# Altium integrated library TI Power Management Supervisor and Reset IC.IntLib: 819 symbols (part 13 of 30)
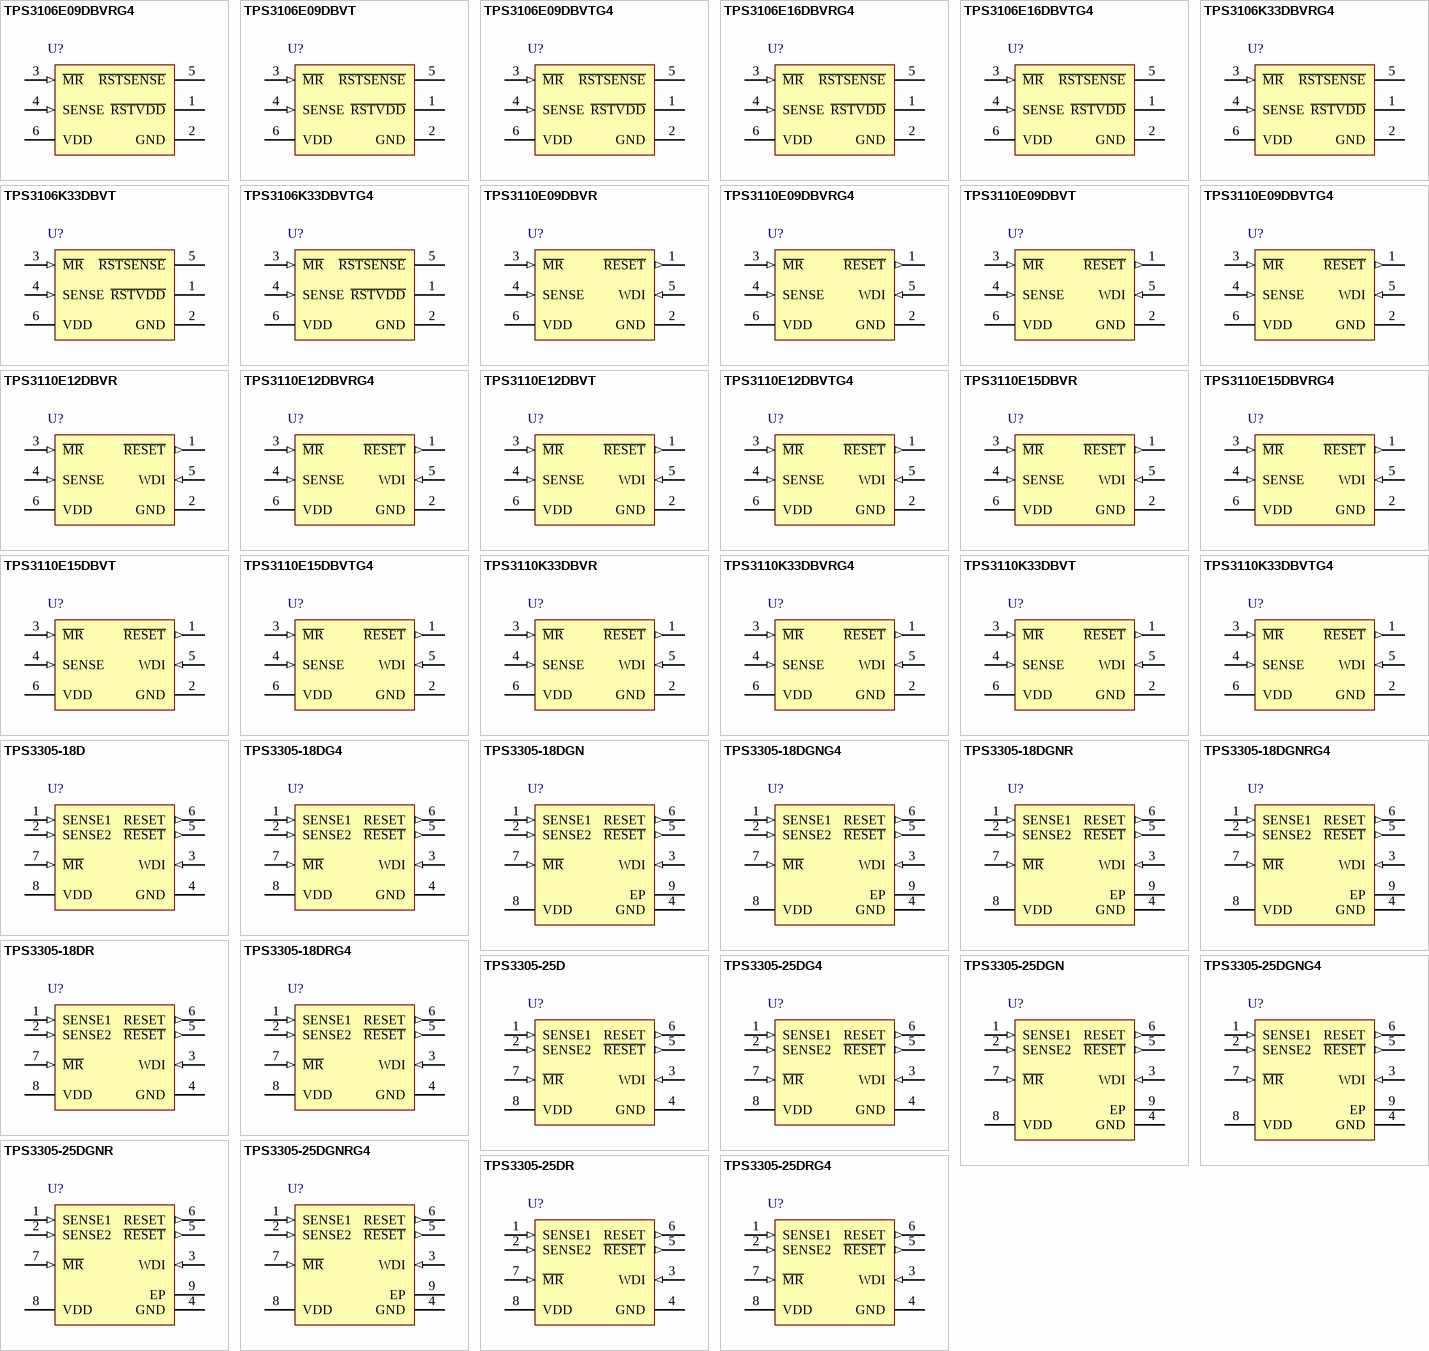
[diagram p33: symbols TPS3106E09DBVRG4 to TPS3305-25DRG4]

## TPS3305-18DRG4
designator U?
Dual Processor Supervisory Circuit, 2 Supply Monitored, -40 to 85 degC, 8-pin SOIC (D), Green (RoHS & no Sb/Br); Manufacturer: Texas Instruments; PartNumber: TPS3305-18DRG4; # of supplies monitored: 2; Iq(Typ)(uA): 15; Output Driver Type / Reset Output: Active-low, Push-pull; Rating: Catalog; Reset Threshold Accuracy(%): 2.7; SubFamily: Supervisor and Reset IC; Threshold Voltage 1 (typ)(Typ)(V): 2.93; Threshold Voltage 2 (typ)(Typ)(V): 1.68; Time Delay(ms): 200; VCC(Max)(V): 6; Watchdog Timer WDI(sec): 1.6; DatasheetVersion: SLVS198C; PackageVersion: revM, Jun-2011; PackageReference: D8; PackageDescription: 8-Pin Plastic Small Outline Integrated Circuit, 4.9 x 3.9 mm, Pitch 1.27 mm Pitch; Supplier 1: Digi-Key; Supplier Part Number 1: TPS3305-18DRG4-ND; Supplier 2: Newark; Supplier Part Number 2: 71J8098; Supplier 3: Mouser; Supplier Part Number 3: 595-TPS3305-18DRG4; VCC(Min)(V): 2.7; Mounting Technology: Surface Mount; Code_JEDEC: MS-012AA; ComponentLink1Description: Datasheet; ComponentLink1URL: http://www.ti.com/general/docs/lit/getliterature.tsp?genericPartNumber=TPS3305-18&fileType=pdf
footprint D8_N (SOIC, 8-Leads, Body 4.9x3.9mm, Pitch 1.27mm, IPC Medium Density)
footprint D8_L (SOIC, 8-Leads, Body 4.9x3.9mm, Pitch 1.27mm, IPC High Density)
footprint D8_M (SOIC, 8-Leads, Body 4.9x3.9mm, Pitch 1.27mm, IPC Low Density)
pins: 1 SENSE1 (in) "Sense voltage input 1", 2 SENSE2 (in) "Sense voltage input 2", 3 WDI (in) "Watchdog timer input", 4 GND (power) "Ground", 5 ~{RESET} (out) "Active-low reset output", 6 RESET (out) "Active-high reset output", 7 ~{MR} (in) "Manual reset", 8 VDD (power) "Supply voltage"

## TPS3305-25D
designator U?
Dual Processor Supervisory Circuit, 2 Supply Monitored, -40 to 85 degC, 8-pin SOIC (D), Green (RoHS & no Sb/Br); Manufacturer: Texas Instruments; PartNumber: TPS3305-25D; # of supplies monitored: 2; Iq(Typ)(uA): 15; Output Driver Type / Reset Output: Active-low, Push-pull; Rating: Catalog; Reset Threshold Accuracy(%): 2.7; SubFamily: Supervisor and Reset IC; Threshold Voltage 1 (typ)(Typ)(V): 2.93; Threshold Voltage 2 (typ)(Typ)(V): 2.25; Time Delay(ms): 200; VCC(Max)(V): 6; Watchdog Timer WDI(sec): 1.6; DatasheetVersion: SLVS198C; PackageVersion: revM, Jun-2011; PackageReference: D8; PackageDescription: 8-Pin Plastic Small Outline Integrated Circuit, 4.9 x 3.9 mm, Pitch 1.27 mm Pitch; Supplier 1: Digi-Key; Supplier Part Number 1: 296-2618-5-ND; Supplier 2: Newark; Supplier Part Number 2: 77C0297; Supplier 3: Mouser; Supplier Part Number 3: 595-TPS3305-25D; VCC(Min)(V): 2.7; Mounting Technology: Surface Mount; Code_JEDEC: MS-012AA; ComponentLink1Description: Datasheet; ComponentLink1URL: http://www.ti.com/general/docs/lit/getliterature.tsp?genericPartNumber=TPS3305-25&fileType=pdf
footprint D8_N (SOIC, 8-Leads, Body 4.9x3.9mm, Pitch 1.27mm, IPC Medium Density)
footprint D8_L (SOIC, 8-Leads, Body 4.9x3.9mm, Pitch 1.27mm, IPC High Density)
footprint D8_M (SOIC, 8-Leads, Body 4.9x3.9mm, Pitch 1.27mm, IPC Low Density)
pins: 1 SENSE1 (in) "Sense voltage input 1", 2 SENSE2 (in) "Sense voltage input 2", 3 WDI (in) "Watchdog timer input", 4 GND (power) "Ground", 5 ~{RESET} (out) "Active-low reset output", 6 RESET (out) "Active-high reset output", 7 ~{MR} (in) "Manual reset", 8 VDD (power) "Supply voltage"

## TPS3305-25DG4
designator U?
Dual Processor Supervisory Circuit, 2 Supply Monitored, -40 to 85 degC, 8-pin SOIC (D), Green (RoHS & no Sb/Br); Manufacturer: Texas Instruments; PartNumber: TPS3305-25DG4; # of supplies monitored: 2; Iq(Typ)(uA): 15; Output Driver Type / Reset Output: Active-low, Push-pull; Rating: Catalog; Reset Threshold Accuracy(%): 2.7; SubFamily: Supervisor and Reset IC; Threshold Voltage 1 (typ)(Typ)(V): 2.93; Threshold Voltage 2 (typ)(Typ)(V): 2.25; Time Delay(ms): 200; VCC(Max)(V): 6; Watchdog Timer WDI(sec): 1.6; DatasheetVersion: SLVS198C; PackageVersion: revM, Jun-2011; PackageReference: D8; PackageDescription: 8-Pin Plastic Small Outline Integrated Circuit, 4.9 x 3.9 mm, Pitch 1.27 mm Pitch; Supplier 1: Digi-Key; Supplier Part Number 1: TPS3305-25DG4-ND; Supplier 2: Farnell; Supplier Part Number 2: 1234815; Supplier 3: Newark; Supplier Part Number 3: 66K4518; Supplier 4: Mouser; Supplier Part Number 4: 595-TPS3305-25DG4; VCC(Min)(V): 2.7; Mounting Technology: Surface Mount; Code_JEDEC: MS-012AA; ComponentLink1Description: Datasheet; ComponentLink1URL: http://www.ti.com/general/docs/lit/getliterature.tsp?genericPartNumber=TPS3305-25&fileType=pdf
footprint D8_N (SOIC, 8-Leads, Body 4.9x3.9mm, Pitch 1.27mm, IPC Medium Density)
footprint D8_L (SOIC, 8-Leads, Body 4.9x3.9mm, Pitch 1.27mm, IPC High Density)
footprint D8_M (SOIC, 8-Leads, Body 4.9x3.9mm, Pitch 1.27mm, IPC Low Density)
pins: 1 SENSE1 (in) "Sense voltage input 1", 2 SENSE2 (in) "Sense voltage input 2", 3 WDI (in) "Watchdog timer input", 4 GND (power) "Ground", 5 ~{RESET} (out) "Active-low reset output", 6 RESET (out) "Active-high reset output", 7 ~{MR} (in) "Manual reset", 8 VDD (power) "Supply voltage"

## TPS3305-25DGN
designator U?
Dual Processor Supervisory Circuit, 2 Supply Monitored, -40 to 85 degC, 8-pin MSOP-PowerPAD (DGN), Green (RoHS & no Sb/Br); Manufacturer: Texas Instruments; PartNumber: TPS3305-25DGN; # of supplies monitored: 2; Iq(Typ)(uA): 15; Output Driver Type / Reset Output: Active-low, Push-pull; Rating: Catalog; Reset Threshold Accuracy(%): 2.7; SubFamily: Supervisor and Reset IC; Threshold Voltage 1 (typ)(Typ)(V): 2.93; Threshold Voltage 2 (typ)(Typ)(V): 2.25; Time Delay(ms): 200; VCC(Max)(V): 6; Watchdog Timer WDI(sec): 1.6; DatasheetVersion: SLVS198C; PackageVersion: revF, May-2011; PackageReference: DGN8-1760X1425TP; PackageDescription: 8-Pin PowerPAD Plastic Small Outline Package 3 x 3 mm Body ,0.65 mm Pitch, Exposed Pad; Supplier 1: Digi-Key; Supplier Part Number 1: 296-34601-5-ND; Supplier 2: Newark; Supplier Part Number 2: 77C0298; Supplier 3: Mouser; Supplier Part Number 3: 595-TPS3305-25DGN; VCC(Min)(V): 2.7; Mounting Technology: Surface Mount; Code_JEDEC: MO-187-AA-T; ComponentLink1Description: Datasheet; ComponentLink1URL: http://www.ti.com/general/docs/lit/getliterature.tsp?genericPartNumber=TPS3305-25&fileType=pdf
footprint DGN8-1760X1425TP_N (TSOP, 8-Leads, Body 3x3mm, Pitch 0.65mm, Thermal Pad 1.89x1.57mm, IPC Medium Density)
footprint DGN8-1760X1425TP_L (TSOP, 8-Leads, Body 3x3mm, Pitch 0.65mm, Thermal Pad 1.89x1.57mm, IPC High Density)
footprint DGN8-1760X1425TP_M (TSOP, 8-Leads, Body 3x3mm, Pitch 0.65mm, Thermal Pad 1.89x1.57mm, IPC Low Density)
pins: 1 SENSE1 (in) "Sense voltage input 1", 2 SENSE2 (in) "Sense voltage input 2", 3 WDI (in) "Watchdog timer input", 4 GND (power) "Ground", 5 ~{RESET} (out) "Active-low reset output", 6 RESET (out) "Active-high reset output", 7 ~{MR} (in) "Manual reset", 8 VDD (power) "Supply voltage", 9 EP "Thermal Pad"

## TPS3305-25DGNG4
designator U?
Dual Processor Supervisory Circuit, 2 Supply Monitored, -40 to 85 degC, 8-pin MSOP-PowerPAD (DGN), Green (RoHS & no Sb/Br); Manufacturer: Texas Instruments; PartNumber: TPS3305-25DGNG4; # of supplies monitored: 2; Iq(Typ)(uA): 15; Output Driver Type / Reset Output: Active-low, Push-pull; Rating: Catalog; Reset Threshold Accuracy(%): 2.7; SubFamily: Supervisor and Reset IC; Threshold Voltage 1 (typ)(Typ)(V): 2.93; Threshold Voltage 2 (typ)(Typ)(V): 2.25; Time Delay(ms): 200; VCC(Max)(V): 6; Watchdog Timer WDI(sec): 1.6; DatasheetVersion: SLVS198C; PackageVersion: revF, May-2011; PackageReference: DGN8-1760X1425TP; PackageDescription: 8-Pin PowerPAD Plastic Small Outline Package 3 x 3 mm Body ,0.65 mm Pitch, Exposed Pad; Supplier 1: Digi-Key; Supplier Part Number 1: TPS3305-25DGNG4-ND; Supplier 2: Newark; Supplier Part Number 2: 58K6913; Supplier 3: Mouser; Supplier Part Number 3: 595-TPS3305-25DGNG4; VCC(Min)(V): 2.7; Mounting Technology: Surface Mount; Code_JEDEC: MO-187-AA-T; ComponentLink1Description: Datasheet; ComponentLink1URL: http://www.ti.com/general/docs/lit/getliterature.tsp?genericPartNumber=TPS3305-25&fileType=pdf
footprint DGN8-1760X1425TP_N (TSOP, 8-Leads, Body 3x3mm, Pitch 0.65mm, Thermal Pad 1.89x1.57mm, IPC Medium Density)
footprint DGN8-1760X1425TP_L (TSOP, 8-Leads, Body 3x3mm, Pitch 0.65mm, Thermal Pad 1.89x1.57mm, IPC High Density)
footprint DGN8-1760X1425TP_M (TSOP, 8-Leads, Body 3x3mm, Pitch 0.65mm, Thermal Pad 1.89x1.57mm, IPC Low Density)
pins: 1 SENSE1 (in) "Sense voltage input 1", 2 SENSE2 (in) "Sense voltage input 2", 3 WDI (in) "Watchdog timer input", 4 GND (power) "Ground", 5 ~{RESET} (out) "Active-low reset output", 6 RESET (out) "Active-high reset output", 7 ~{MR} (in) "Manual reset", 8 VDD (power) "Supply voltage", 9 EP "Thermal Pad"

## TPS3305-25DGNR
designator U?
Dual Processor Supervisory Circuit, 2 Supply Monitored, -40 to 85 degC, 8-pin MSOP-PowerPAD (DGN), Green (RoHS & no Sb/Br); Manufacturer: Texas Instruments; PartNumber: TPS3305-25DGNR; # of supplies monitored: 2; Iq(Typ)(uA): 15; Output Driver Type / Reset Output: Active-low, Push-pull; Rating: Catalog; Reset Threshold Accuracy(%): 2.7; SubFamily: Supervisor and Reset IC; Threshold Voltage 1 (typ)(Typ)(V): 2.93; Threshold Voltage 2 (typ)(Typ)(V): 2.25; Time Delay(ms): 200; VCC(Max)(V): 6; Watchdog Timer WDI(sec): 1.6; DatasheetVersion: SLVS198C; PackageVersion: revF, May-2011; PackageReference: DGN8-1760X1425TP; PackageDescription: 8-Pin PowerPAD Plastic Small Outline Package 3 x 3 mm Body ,0.65 mm Pitch, Exposed Pad; Supplier 1: Digi-Key; Supplier Part Number 1: 296-3300-2-ND; Supplier 2: Digi-Key; Supplier Part Number 2: 296-3300-1-ND; Supplier 3: Digi-Key; Supplier Part Number 3: 296-3300-6-ND; Supplier 4: Newark; Supplier Part Number 4: 77C0299; Supplier 5: Mouser; Supplier Part Number 5: 595-TPS3305-25DGNR; VCC(Min)(V): 2.7; Mounting Technology: Surface Mount; Code_JEDEC: MO-187-AA-T; ComponentLink1Description: Datasheet; ComponentLink1URL: http://www.ti.com/general/docs/lit/getliterature.tsp?genericPartNumber=TPS3305-25&fileType=pdf
footprint DGN8-1760X1425TP_N (TSOP, 8-Leads, Body 3x3mm, Pitch 0.65mm, Thermal Pad 1.89x1.57mm, IPC Medium Density)
footprint DGN8-1760X1425TP_L (TSOP, 8-Leads, Body 3x3mm, Pitch 0.65mm, Thermal Pad 1.89x1.57mm, IPC High Density)
footprint DGN8-1760X1425TP_M (TSOP, 8-Leads, Body 3x3mm, Pitch 0.65mm, Thermal Pad 1.89x1.57mm, IPC Low Density)
pins: 1 SENSE1 (in) "Sense voltage input 1", 2 SENSE2 (in) "Sense voltage input 2", 3 WDI (in) "Watchdog timer input", 4 GND (power) "Ground", 5 ~{RESET} (out) "Active-low reset output", 6 RESET (out) "Active-high reset output", 7 ~{MR} (in) "Manual reset", 8 VDD (power) "Supply voltage", 9 EP "Thermal Pad"

## TPS3305-25DGNRG4
designator U?
Dual Processor Supervisory Circuit, 2 Supply Monitored, -40 to 85 degC, 8-pin MSOP-PowerPAD (DGN), Green (RoHS & no Sb/Br); Manufacturer: Texas Instruments; PartNumber: TPS3305-25DGNRG4; # of supplies monitored: 2; Iq(Typ)(uA): 15; Output Driver Type / Reset Output: Active-low, Push-pull; Rating: Catalog; Reset Threshold Accuracy(%): 2.7; SubFamily: Supervisor and Reset IC; Threshold Voltage 1 (typ)(Typ)(V): 2.93; Threshold Voltage 2 (typ)(Typ)(V): 2.25; Time Delay(ms): 200; VCC(Max)(V): 6; Watchdog Timer WDI(sec): 1.6; DatasheetVersion: SLVS198C; PackageVersion: revF, May-2011; PackageReference: DGN8-1760X1425TP; PackageDescription: 8-Pin PowerPAD Plastic Small Outline Package 3 x 3 mm Body ,0.65 mm Pitch, Exposed Pad; Supplier 1: Digi-Key; Supplier Part Number 1: TPS3305-25DGNRG4-ND; Supplier 2: Newark; Supplier Part Number 2: 54K1615; Supplier 3: Mouser; Supplier Part Number 3: 595-TPS3305-25DGNRG4; VCC(Min)(V): 2.7; Mounting Technology: Surface Mount; Code_JEDEC: MO-187-AA-T; ComponentLink1Description: Datasheet; ComponentLink1URL: http://www.ti.com/general/docs/lit/getliterature.tsp?genericPartNumber=TPS3305-25&fileType=pdf
footprint DGN8-1760X1425TP_N (TSOP, 8-Leads, Body 3x3mm, Pitch 0.65mm, Thermal Pad 1.89x1.57mm, IPC Medium Density)
footprint DGN8-1760X1425TP_L (TSOP, 8-Leads, Body 3x3mm, Pitch 0.65mm, Thermal Pad 1.89x1.57mm, IPC High Density)
footprint DGN8-1760X1425TP_M (TSOP, 8-Leads, Body 3x3mm, Pitch 0.65mm, Thermal Pad 1.89x1.57mm, IPC Low Density)
pins: 1 SENSE1 (in) "Sense voltage input 1", 2 SENSE2 (in) "Sense voltage input 2", 3 WDI (in) "Watchdog timer input", 4 GND (power) "Ground", 5 ~{RESET} (out) "Active-low reset output", 6 RESET (out) "Active-high reset output", 7 ~{MR} (in) "Manual reset", 8 VDD (power) "Supply voltage", 9 EP "Thermal Pad"

## TPS3305-25DR
designator U?
Dual Processor Supervisory Circuit, 2 Supply Monitored, -40 to 85 degC, 8-pin SOIC (D), Green (RoHS & no Sb/Br); Manufacturer: Texas Instruments; PartNumber: TPS3305-25DR; # of supplies monitored: 2; Iq(Typ)(uA): 15; Output Driver Type / Reset Output: Active-low, Push-pull; Rating: Catalog; Reset Threshold Accuracy(%): 2.7; SubFamily: Supervisor and Reset IC; Threshold Voltage 1 (typ)(Typ)(V): 2.93; Threshold Voltage 2 (typ)(Typ)(V): 2.25; Time Delay(ms): 200; VCC(Max)(V): 6; Watchdog Timer WDI(sec): 1.6; DatasheetVersion: SLVS198C; PackageVersion: revM, Jun-2011; PackageReference: D8; PackageDescription: 8-Pin Plastic Small Outline Integrated Circuit, 4.9 x 3.9 mm, Pitch 1.27 mm Pitch; Supplier 1: Digi-Key; Supplier Part Number 1: TPS3305-25DR-ND; Supplier 2: Newark; Supplier Part Number 2: 77C0300; Supplier 3: Mouser; Supplier Part Number 3: 595-TPS3305-25DR; VCC(Min)(V): 2.7; Mounting Technology: Surface Mount; Code_JEDEC: MS-012AA; ComponentLink1Description: Datasheet; ComponentLink1URL: http://www.ti.com/general/docs/lit/getliterature.tsp?genericPartNumber=TPS3305-25&fileType=pdf
footprint D8_N (SOIC, 8-Leads, Body 4.9x3.9mm, Pitch 1.27mm, IPC Medium Density)
footprint D8_L (SOIC, 8-Leads, Body 4.9x3.9mm, Pitch 1.27mm, IPC High Density)
footprint D8_M (SOIC, 8-Leads, Body 4.9x3.9mm, Pitch 1.27mm, IPC Low Density)
pins: 1 SENSE1 (in) "Sense voltage input 1", 2 SENSE2 (in) "Sense voltage input 2", 3 WDI (in) "Watchdog timer input", 4 GND (power) "Ground", 5 ~{RESET} (out) "Active-low reset output", 6 RESET (out) "Active-high reset output", 7 ~{MR} (in) "Manual reset", 8 VDD (power) "Supply voltage"

## TPS3305-25DRG4
designator U?
Dual Processor Supervisory Circuit, 2 Supply Monitored, -40 to 85 degC, 8-pin SOIC (D), Green (RoHS & no Sb/Br); Manufacturer: Texas Instruments; PartNumber: TPS3305-25DRG4; # of supplies monitored: 2; Iq(Typ)(uA): 15; Output Driver Type / Reset Output: Active-low, Push-pull; Rating: Catalog; Reset Threshold Accuracy(%): 2.7; SubFamily: Supervisor and Reset IC; Threshold Voltage 1 (typ)(Typ)(V): 2.93; Threshold Voltage 2 (typ)(Typ)(V): 2.25; Time Delay(ms): 200; VCC(Max)(V): 6; Watchdog Timer WDI(sec): 1.6; DatasheetVersion: SLVS198C; PackageVersion: revM, Jun-2011; PackageReference: D8; PackageDescription: 8-Pin Plastic Small Outline Integrated Circuit, 4.9 x 3.9 mm, Pitch 1.27 mm Pitch; Supplier 1: Digi-Key; Supplier Part Number 1: TPS3305-25DRG4-ND; Supplier 2: Newark; Supplier Part Number 2: 54K1616; Supplier 3: Mouser; Supplier Part Number 3: 595-TPS3305-25DRG4; VCC(Min)(V): 2.7; Mounting Technology: Surface Mount; Code_JEDEC: MS-012AA; ComponentLink1Description: Datasheet; ComponentLink1URL: http://www.ti.com/general/docs/lit/getliterature.tsp?genericPartNumber=TPS3305-25&fileType=pdf
footprint D8_N (SOIC, 8-Leads, Body 4.9x3.9mm, Pitch 1.27mm, IPC Medium Density)
footprint D8_L (SOIC, 8-Leads, Body 4.9x3.9mm, Pitch 1.27mm, IPC High Density)
footprint D8_M (SOIC, 8-Leads, Body 4.9x3.9mm, Pitch 1.27mm, IPC Low Density)
pins: 1 SENSE1 (in) "Sense voltage input 1", 2 SENSE2 (in) "Sense voltage input 2", 3 WDI (in) "Watchdog timer input", 4 GND (power) "Ground", 5 ~{RESET} (out) "Active-low reset output", 6 RESET (out) "Active-high reset output", 7 ~{MR} (in) "Manual reset", 8 VDD (power) "Supply voltage"

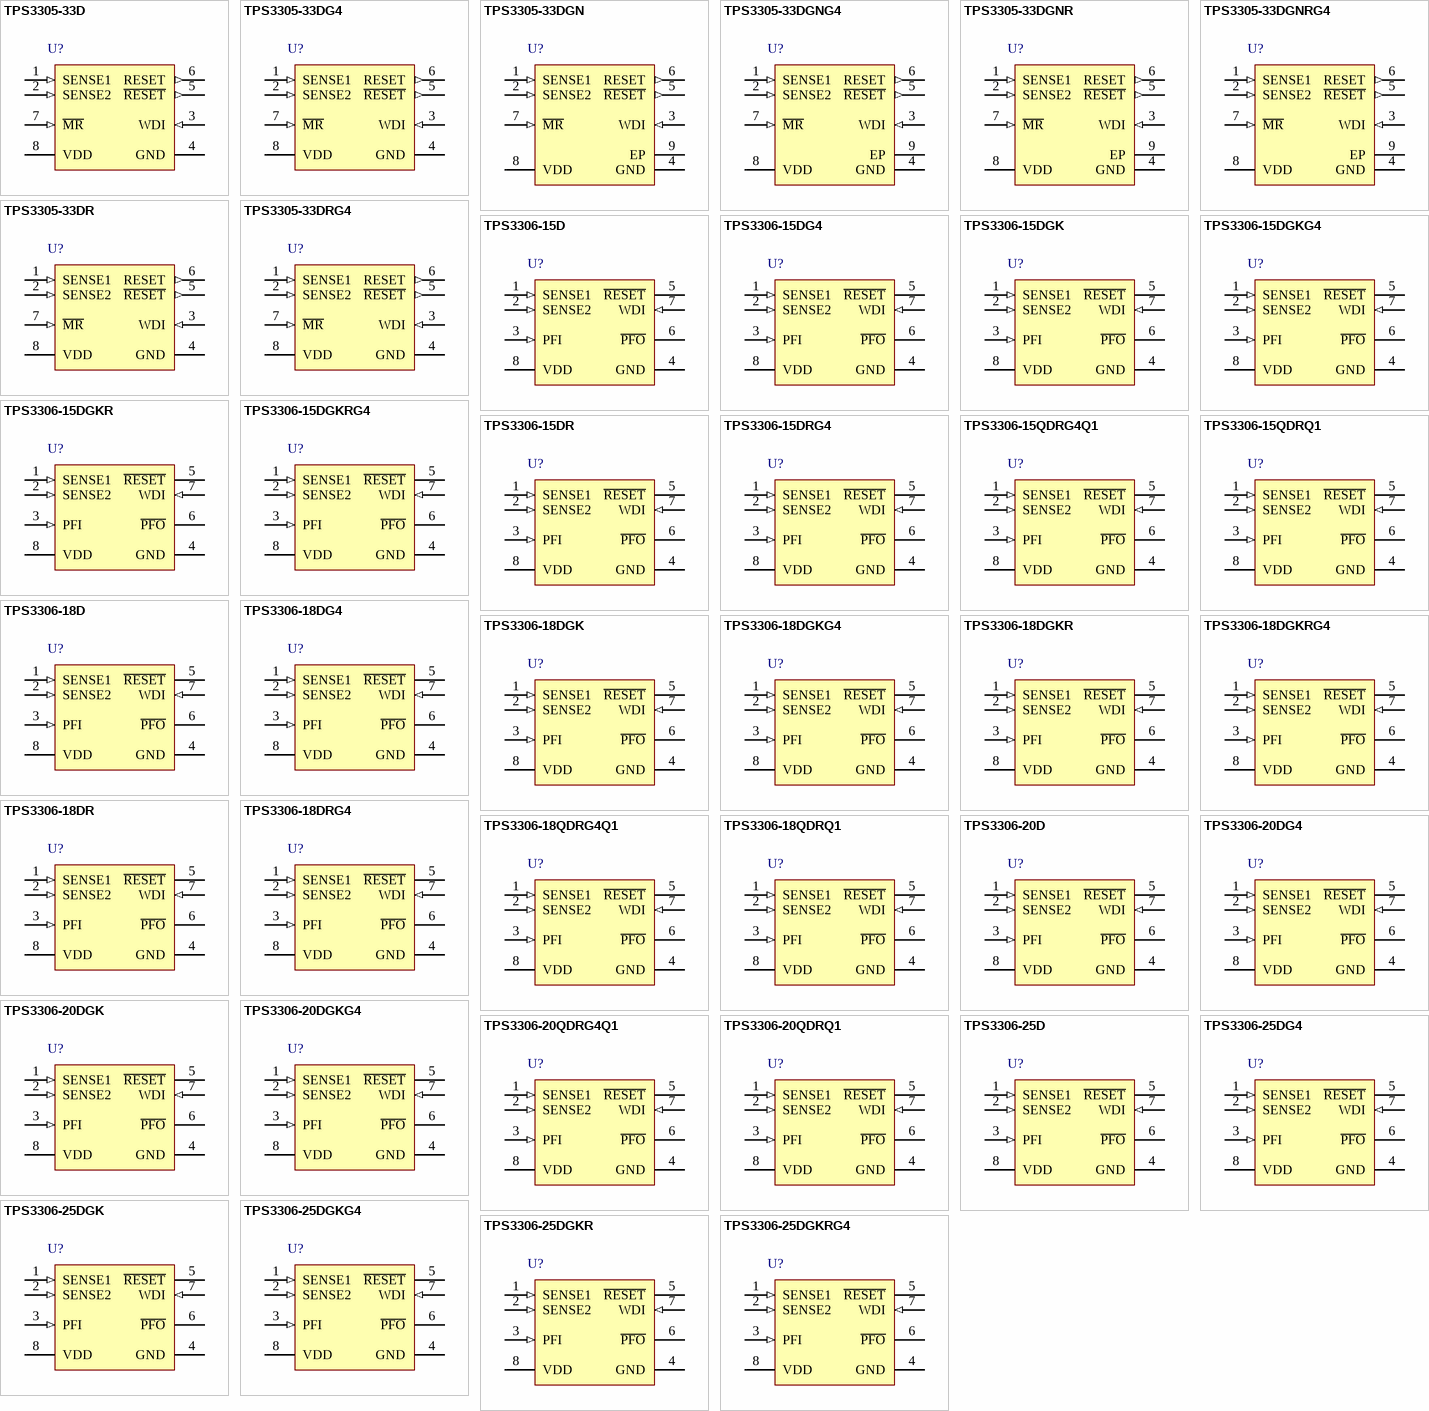
[diagram p10: symbols TPS3305-33D to TPS3306-25DGKRG4]

## TPS3305-33D
designator U?
Dual Processor Supervisory Circuit, 2 Supply Monitored, -40 to 85 degC, 8-pin SOIC (D), Green (RoHS & no Sb/Br); Manufacturer: Texas Instruments; PartNumber: TPS3305-33D; # of supplies monitored: 2; Iq(Typ)(uA): 15; Output Driver Type / Reset Output: Active-low, Push-pull; Rating: Catalog; Reset Threshold Accuracy(%): 2.7; SubFamily: Supervisor and Reset IC; Threshold Voltage 1 (typ)(Typ)(V): 4.55; Threshold Voltage 2 (typ)(Typ)(V): 2.93; Time Delay(ms): 200; VCC(Max)(V): 6; Watchdog Timer WDI(sec): 1.6; DatasheetVersion: SLVS198C; PackageVersion: revM, Jun-2011; PackageReference: D8; PackageDescription: 8-Pin Plastic Small Outline Integrated Circuit, 4.9 x 3.9 mm, Pitch 1.27 mm Pitch; Supplier 1: Digi-Key; Supplier Part Number 1: 296-2619-5-ND; Supplier 2: Farnell; Supplier Part Number 2: 8457069; Supplier 3: Newark; Supplier Part Number 3: 35K1317; Supplier 4: Mouser; Supplier Part Number 4: 595-TPS3305-33D; VCC(Min)(V): 2.7; Mounting Technology: Surface Mount; Code_JEDEC: MS-012AA; ComponentLink1Description: Datasheet; ComponentLink1URL: http://www.ti.com/general/docs/lit/getliterature.tsp?genericPartNumber=TPS3305-33&fileType=pdf
footprint D8_N (SOIC, 8-Leads, Body 4.9x3.9mm, Pitch 1.27mm, IPC Medium Density)
footprint D8_L (SOIC, 8-Leads, Body 4.9x3.9mm, Pitch 1.27mm, IPC High Density)
footprint D8_M (SOIC, 8-Leads, Body 4.9x3.9mm, Pitch 1.27mm, IPC Low Density)
pins: 1 SENSE1 (in) "Sense voltage input 1", 2 SENSE2 (in) "Sense voltage input 2", 3 WDI (in) "Watchdog timer input", 4 GND (power) "Ground", 5 ~{RESET} (out) "Active-low reset output", 6 RESET (out) "Active-high reset output", 7 ~{MR} (in) "Manual reset", 8 VDD (power) "Supply voltage"

## TPS3305-33DG4
designator U?
Dual Processor Supervisory Circuit, 2 Supply Monitored, -40 to 85 degC, 8-pin SOIC (D), Green (RoHS & no Sb/Br); Manufacturer: Texas Instruments; PartNumber: TPS3305-33DG4; # of supplies monitored: 2; Iq(Typ)(uA): 15; Output Driver Type / Reset Output: Active-low, Push-pull; Rating: Catalog; Reset Threshold Accuracy(%): 2.7; SubFamily: Supervisor and Reset IC; Threshold Voltage 1 (typ)(Typ)(V): 4.55; Threshold Voltage 2 (typ)(Typ)(V): 2.93; Time Delay(ms): 200; VCC(Max)(V): 6; Watchdog Timer WDI(sec): 1.6; DatasheetVersion: SLVS198C; PackageVersion: revM, Jun-2011; PackageReference: D8; PackageDescription: 8-Pin Plastic Small Outline Integrated Circuit, 4.9 x 3.9 mm, Pitch 1.27 mm Pitch; Supplier 1: Digi-Key; Supplier Part Number 1: TPS3305-33DG4-ND; Supplier 2: Newark; Supplier Part Number 2: 54K1618; Supplier 3: Mouser; Supplier Part Number 3: 595-TPS3305-33DG4; VCC(Min)(V): 2.7; Mounting Technology: Surface Mount; Code_JEDEC: MS-012AA; ComponentLink1Description: Datasheet; ComponentLink1URL: http://www.ti.com/general/docs/lit/getliterature.tsp?genericPartNumber=TPS3305-33&fileType=pdf
footprint D8_N (SOIC, 8-Leads, Body 4.9x3.9mm, Pitch 1.27mm, IPC Medium Density)
footprint D8_L (SOIC, 8-Leads, Body 4.9x3.9mm, Pitch 1.27mm, IPC High Density)
footprint D8_M (SOIC, 8-Leads, Body 4.9x3.9mm, Pitch 1.27mm, IPC Low Density)
pins: 1 SENSE1 (in) "Sense voltage input 1", 2 SENSE2 (in) "Sense voltage input 2", 3 WDI (in) "Watchdog timer input", 4 GND (power) "Ground", 5 ~{RESET} (out) "Active-low reset output", 6 RESET (out) "Active-high reset output", 7 ~{MR} (in) "Manual reset", 8 VDD (power) "Supply voltage"

## TPS3305-33DGN
designator U?
Dual Processor Supervisory Circuit, 2 Supply Monitored, -40 to 85 degC, 8-pin MSOP-PowerPAD (DGN), Green (RoHS & no Sb/Br); Manufacturer: Texas Instruments; PartNumber: TPS3305-33DGN; # of supplies monitored: 2; Iq(Typ)(uA): 15; Output Driver Type / Reset Output: Active-low, Push-pull; Rating: Catalog; Reset Threshold Accuracy(%): 2.7; SubFamily: Supervisor and Reset IC; Threshold Voltage 1 (typ)(Typ)(V): 4.55; Threshold Voltage 2 (typ)(Typ)(V): 2.93; Time Delay(ms): 200; VCC(Max)(V): 6; Watchdog Timer WDI(sec): 1.6; DatasheetVersion: SLVS198C; PackageVersion: revF, May-2011; PackageReference: DGN8-1760X1425TP; PackageDescription: 8-Pin PowerPAD Plastic Small Outline Package 3 x 3 mm Body ,0.65 mm Pitch, Exposed Pad; Supplier 1: Digi-Key; Supplier Part Number 1: 296-26934-5-ND; Supplier 2: Newark; Supplier Part Number 2: 26C1938; Supplier 3: Mouser; Supplier Part Number 3: 595-TPS3305-33DGN; VCC(Min)(V): 2.7; Mounting Technology: Surface Mount; Code_JEDEC: MO-187-AA-T; ComponentLink1Description: Datasheet; ComponentLink1URL: http://www.ti.com/general/docs/lit/getliterature.tsp?genericPartNumber=TPS3305-33&fileType=pdf
footprint DGN8-1760X1425TP_N (TSOP, 8-Leads, Body 3x3mm, Pitch 0.65mm, Thermal Pad 1.89x1.57mm, IPC Medium Density)
footprint DGN8-1760X1425TP_L (TSOP, 8-Leads, Body 3x3mm, Pitch 0.65mm, Thermal Pad 1.89x1.57mm, IPC High Density)
footprint DGN8-1760X1425TP_M (TSOP, 8-Leads, Body 3x3mm, Pitch 0.65mm, Thermal Pad 1.89x1.57mm, IPC Low Density)
pins: 1 SENSE1 (in) "Sense voltage input 1", 2 SENSE2 (in) "Sense voltage input 2", 3 WDI (in) "Watchdog timer input", 4 GND (power) "Ground", 5 ~{RESET} (out) "Active-low reset output", 6 RESET (out) "Active-high reset output", 7 ~{MR} (in) "Manual reset", 8 VDD (power) "Supply voltage", 9 EP "Thermal Pad"

## TPS3305-33DGNG4
designator U?
Dual Processor Supervisory Circuit, 2 Supply Monitored, -40 to 85 degC, 8-pin MSOP-PowerPAD (DGN), Green (RoHS & no Sb/Br); Manufacturer: Texas Instruments; PartNumber: TPS3305-33DGNG4; # of supplies monitored: 2; Iq(Typ)(uA): 15; Output Driver Type / Reset Output: Active-low, Push-pull; Rating: Catalog; Reset Threshold Accuracy(%): 2.7; SubFamily: Supervisor and Reset IC; Threshold Voltage 1 (typ)(Typ)(V): 4.55; Threshold Voltage 2 (typ)(Typ)(V): 2.93; Time Delay(ms): 200; VCC(Max)(V): 6; Watchdog Timer WDI(sec): 1.6; DatasheetVersion: SLVS198C; PackageVersion: revF, May-2011; PackageReference: DGN8-1760X1425TP; PackageDescription: 8-Pin PowerPAD Plastic Small Outline Package 3 x 3 mm Body ,0.65 mm Pitch, Exposed Pad; Supplier 1: Digi-Key; Supplier Part Number 1: TPS3305-33DGNG4-ND; Supplier 2: Newark; Supplier Part Number 2: 54K1617; Supplier 3: Mouser; Supplier Part Number 3: 595-TPS3305-33DGNG4; VCC(Min)(V): 2.7; Mounting Technology: Surface Mount; Code_JEDEC: MO-187-AA-T; ComponentLink1Description: Datasheet; ComponentLink1URL: http://www.ti.com/general/docs/lit/getliterature.tsp?genericPartNumber=TPS3305-33&fileType=pdf
footprint DGN8-1760X1425TP_N (TSOP, 8-Leads, Body 3x3mm, Pitch 0.65mm, Thermal Pad 1.89x1.57mm, IPC Medium Density)
footprint DGN8-1760X1425TP_L (TSOP, 8-Leads, Body 3x3mm, Pitch 0.65mm, Thermal Pad 1.89x1.57mm, IPC High Density)
footprint DGN8-1760X1425TP_M (TSOP, 8-Leads, Body 3x3mm, Pitch 0.65mm, Thermal Pad 1.89x1.57mm, IPC Low Density)
pins: 1 SENSE1 (in) "Sense voltage input 1", 2 SENSE2 (in) "Sense voltage input 2", 3 WDI (in) "Watchdog timer input", 4 GND (power) "Ground", 5 ~{RESET} (out) "Active-low reset output", 6 RESET (out) "Active-high reset output", 7 ~{MR} (in) "Manual reset", 8 VDD (power) "Supply voltage", 9 EP "Thermal Pad"

## TPS3305-33DGNR
designator U?
Dual Processor Supervisory Circuit, 2 Supply Monitored, -40 to 85 degC, 8-pin MSOP-PowerPAD (DGN), Green (RoHS & no Sb/Br); Manufacturer: Texas Instruments; PartNumber: TPS3305-33DGNR; # of supplies monitored: 2; Iq(Typ)(uA): 15; Output Driver Type / Reset Output: Active-low, Push-pull; Rating: Catalog; Reset Threshold Accuracy(%): 2.7; SubFamily: Supervisor and Reset IC; Threshold Voltage 1 (typ)(Typ)(V): 4.55; Threshold Voltage 2 (typ)(Typ)(V): 2.93; Time Delay(ms): 200; VCC(Max)(V): 6; Watchdog Timer WDI(sec): 1.6; DatasheetVersion: SLVS198C; PackageVersion: revF, May-2011; PackageReference: DGN8-1760X1425TP; PackageDescription: 8-Pin PowerPAD Plastic Small Outline Package 3 x 3 mm Body ,0.65 mm Pitch, Exposed Pad; Supplier 1: Digi-Key; Supplier Part Number 1: 296-3301-2-ND; Supplier 2: Digi-Key; Supplier Part Number 2: 296-3301-1-ND; Supplier 3: Digi-Key; Supplier Part Number 3: 296-3301-6-ND; Supplier 4: Newark; Supplier Part Number 4: 77C0302; Supplier 5: Mouser; Supplier Part Number 5: 595-TPS3305-33DGNR; VCC(Min)(V): 2.7; Mounting Technology: Surface Mount; Code_JEDEC: MO-187-AA-T; ComponentLink1Description: Datasheet; ComponentLink1URL: http://www.ti.com/general/docs/lit/getliterature.tsp?genericPartNumber=TPS3305-33&fileType=pdf
footprint DGN8-1760X1425TP_N (TSOP, 8-Leads, Body 3x3mm, Pitch 0.65mm, Thermal Pad 1.89x1.57mm, IPC Medium Density)
footprint DGN8-1760X1425TP_L (TSOP, 8-Leads, Body 3x3mm, Pitch 0.65mm, Thermal Pad 1.89x1.57mm, IPC High Density)
footprint DGN8-1760X1425TP_M (TSOP, 8-Leads, Body 3x3mm, Pitch 0.65mm, Thermal Pad 1.89x1.57mm, IPC Low Density)
pins: 1 SENSE1 (in) "Sense voltage input 1", 2 SENSE2 (in) "Sense voltage input 2", 3 WDI (in) "Watchdog timer input", 4 GND (power) "Ground", 5 ~{RESET} (out) "Active-low reset output", 6 RESET (out) "Active-high reset output", 7 ~{MR} (in) "Manual reset", 8 VDD (power) "Supply voltage", 9 EP "Thermal Pad"

## TPS3305-33DGNRG4
designator U?
Dual Processor Supervisory Circuit, 2 Supply Monitored, -40 to 85 degC, 8-pin MSOP-PowerPAD (DGN), Green (RoHS & no Sb/Br); Manufacturer: Texas Instruments; PartNumber: TPS3305-33DGNRG4; # of supplies monitored: 2; Iq(Typ)(uA): 15; Output Driver Type / Reset Output: Active-low, Push-pull; Rating: Catalog; Reset Threshold Accuracy(%): 2.7; SubFamily: Supervisor and Reset IC; Threshold Voltage 1 (typ)(Typ)(V): 4.55; Threshold Voltage 2 (typ)(Typ)(V): 2.93; Time Delay(ms): 200; VCC(Max)(V): 6; Watchdog Timer WDI(sec): 1.6; DatasheetVersion: SLVS198C; PackageVersion: revF, May-2011; PackageReference: DGN8-1760X1425TP; PackageDescription: 8-Pin PowerPAD Plastic Small Outline Package 3 x 3 mm Body ,0.65 mm Pitch, Exposed Pad; Supplier 1: Digi-Key; Supplier Part Number 1: TPS3305-33DGNRG4-ND; Supplier 2: Newark; Supplier Part Number 2: 28K5723; Supplier 3: Mouser; Supplier Part Number 3: 595-TPS3305-33DGNRG4; VCC(Min)(V): 2.7; Mounting Technology: Surface Mount; Code_JEDEC: MO-187-AA-T; ComponentLink1Description: Datasheet; ComponentLink1URL: http://www.ti.com/general/docs/lit/getliterature.tsp?genericPartNumber=TPS3305-33&fileType=pdf
footprint DGN8-1760X1425TP_N (TSOP, 8-Leads, Body 3x3mm, Pitch 0.65mm, Thermal Pad 1.89x1.57mm, IPC Medium Density)
footprint DGN8-1760X1425TP_L (TSOP, 8-Leads, Body 3x3mm, Pitch 0.65mm, Thermal Pad 1.89x1.57mm, IPC High Density)
footprint DGN8-1760X1425TP_M (TSOP, 8-Leads, Body 3x3mm, Pitch 0.65mm, Thermal Pad 1.89x1.57mm, IPC Low Density)
pins: 1 SENSE1 (in) "Sense voltage input 1", 2 SENSE2 (in) "Sense voltage input 2", 3 WDI (in) "Watchdog timer input", 4 GND (power) "Ground", 5 ~{RESET} (out) "Active-low reset output", 6 RESET (out) "Active-high reset output", 7 ~{MR} (in) "Manual reset", 8 VDD (power) "Supply voltage", 9 EP "Thermal Pad"

## TPS3305-33DR
designator U?
Dual Processor Supervisory Circuit, 2 Supply Monitored, -40 to 85 degC, 8-pin SOIC (D), Green (RoHS & no Sb/Br); Manufacturer: Texas Instruments; PartNumber: TPS3305-33DR; # of supplies monitored: 2; Iq(Typ)(uA): 15; Output Driver Type / Reset Output: Active-low, Push-pull; Rating: Catalog; Reset Threshold Accuracy(%): 2.7; SubFamily: Supervisor and Reset IC; Threshold Voltage 1 (typ)(Typ)(V): 4.55; Threshold Voltage 2 (typ)(Typ)(V): 2.93; Time Delay(ms): 200; VCC(Max)(V): 6; Watchdog Timer WDI(sec): 1.6; DatasheetVersion: SLVS198C; PackageVersion: revM, Jun-2011; PackageReference: D8; PackageDescription: 8-Pin Plastic Small Outline Integrated Circuit, 4.9 x 3.9 mm, Pitch 1.27 mm Pitch; Supplier 1: Digi-Key; Supplier Part Number 1: TPS3305-33DR-ND; Supplier 2: Newark; Supplier Part Number 2: 77C0303; Supplier 3: Mouser; Supplier Part Number 3: 595-TPS3305-33DR; VCC(Min)(V): 2.7; Mounting Technology: Surface Mount; Code_JEDEC: MS-012AA; ComponentLink1Description: Datasheet; ComponentLink1URL: http://www.ti.com/general/docs/lit/getliterature.tsp?genericPartNumber=TPS3305-33&fileType=pdf
footprint D8_N (SOIC, 8-Leads, Body 4.9x3.9mm, Pitch 1.27mm, IPC Medium Density)
footprint D8_L (SOIC, 8-Leads, Body 4.9x3.9mm, Pitch 1.27mm, IPC High Density)
footprint D8_M (SOIC, 8-Leads, Body 4.9x3.9mm, Pitch 1.27mm, IPC Low Density)
pins: 1 SENSE1 (in) "Sense voltage input 1", 2 SENSE2 (in) "Sense voltage input 2", 3 WDI (in) "Watchdog timer input", 4 GND (power) "Ground", 5 ~{RESET} (out) "Active-low reset output", 6 RESET (out) "Active-high reset output", 7 ~{MR} (in) "Manual reset", 8 VDD (power) "Supply voltage"

## TPS3305-33DRG4
designator U?
Dual Processor Supervisory Circuit, 2 Supply Monitored, -40 to 85 degC, 8-pin SOIC (D), Green (RoHS & no Sb/Br); Manufacturer: Texas Instruments; PartNumber: TPS3305-33DRG4; # of supplies monitored: 2; Iq(Typ)(uA): 15; Output Driver Type / Reset Output: Active-low, Push-pull; Rating: Catalog; Reset Threshold Accuracy(%): 2.7; SubFamily: Supervisor and Reset IC; Threshold Voltage 1 (typ)(Typ)(V): 4.55; Threshold Voltage 2 (typ)(Typ)(V): 2.93; Time Delay(ms): 200; VCC(Max)(V): 6; Watchdog Timer WDI(sec): 1.6; DatasheetVersion: SLVS198C; PackageVersion: revM, Jun-2011; PackageReference: D8; PackageDescription: 8-Pin Plastic Small Outline Integrated Circuit, 4.9 x 3.9 mm, Pitch 1.27 mm Pitch; Supplier 1: Digi-Key; Supplier Part Number 1: TPS3305-33DRG4-ND; Supplier 2: Newark; Supplier Part Number 2: 33K7599; Supplier 3: Mouser; Supplier Part Number 3: 595-TPS3305-33DRG4; VCC(Min)(V): 2.7; Mounting Technology: Surface Mount; Code_JEDEC: MS-012AA; ComponentLink1Description: Datasheet; ComponentLink1URL: http://www.ti.com/general/docs/lit/getliterature.tsp?genericPartNumber=TPS3305-33&fileType=pdf
footprint D8_N (SOIC, 8-Leads, Body 4.9x3.9mm, Pitch 1.27mm, IPC Medium Density)
footprint D8_L (SOIC, 8-Leads, Body 4.9x3.9mm, Pitch 1.27mm, IPC High Density)
footprint D8_M (SOIC, 8-Leads, Body 4.9x3.9mm, Pitch 1.27mm, IPC Low Density)
pins: 1 SENSE1 (in) "Sense voltage input 1", 2 SENSE2 (in) "Sense voltage input 2", 3 WDI (in) "Watchdog timer input", 4 GND (power) "Ground", 5 ~{RESET} (out) "Active-low reset output", 6 RESET (out) "Active-high reset output", 7 ~{MR} (in) "Manual reset", 8 VDD (power) "Supply voltage"

## TPS3306-15D
designator U?
Dual-Processor Supervisory Circuit with Power-Fail, 2 Supply Monitored, -40 to 85 degC, 8-pin SOIC (D), Green (RoHS & no Sb/Br); Manufacturer: Texas Instruments; PartNumber: TPS3306-15D; # of supplies monitored: 2; Iq(Typ)(uA): 15; Output Driver Type / Reset Output: Active-low, Open-drain; Rating: Catalog; Reset Threshold Accuracy(%): 2.7; SubFamily: Supervisor and Reset IC; Threshold Voltage 1 (typ)(Typ)(V): 2.93; Threshold Voltage 2 (typ)(Typ)(V): 1.4; Time Delay(ms): 100; VCC(Max)(V): 6; Watchdog Timer WDI(sec): 0.8; DatasheetVersion: SLVS290C; PackageVersion: revM, Jun-2011; PackageReference: D8; PackageDescription: 8-Pin Plastic Small Outline Integrated Circuit, 4.9 x 3.9 mm, Pitch 1.27 mm Pitch; Supplier 1: Digi-Key; Supplier Part Number 1: 296-3302-5-ND; Supplier 2: Farnell; Supplier Part Number 2: 8457077; Supplier 3: Newark; Supplier Part Number 3: 77C0304; Supplier 4: Mouser; Supplier Part Number 4: 595-TPS3306-15D; VCC(Min)(V): 2.7; Mounting Technology: Surface Mount; Code_JEDEC: MS-012AA; ComponentLink1Description: Datasheet; ComponentLink1URL: http://www.ti.com/general/docs/lit/getliterature.tsp?genericPartNumber=TPS3306-15&fileType=pdf
footprint D8_N (SOIC, 8-Leads, Body 4.9x3.9mm, Pitch 1.27mm, IPC Medium Density)
footprint D8_L (SOIC, 8-Leads, Body 4.9x3.9mm, Pitch 1.27mm, IPC High Density)
footprint D8_M (SOIC, 8-Leads, Body 4.9x3.9mm, Pitch 1.27mm, IPC Low Density)
pins: 1 SENSE1 (in) "Sense voltage input 1", 2 SENSE2 (in) "Sense voltage input 2", 3 PFI (in) "Power-fail comparator input", 4 GND (power) "Ground", 5 ~{RESET} (oc) "Active-low reset output, open-drain", 6 ~{PFO} (oc) "Power-fail comparator output, open-drain", 7 WDI (in) "Watchdog timer input", 8 VDD (power) "Supply voltage"

## TPS3306-15DG4
designator U?
Dual-Processor Supervisory Circuit with Power-Fail, 2 Supply Monitored, -40 to 85 degC, 8-pin SOIC (D), Green (RoHS & no Sb/Br); Manufacturer: Texas Instruments; PartNumber: TPS3306-15DG4; # of supplies monitored: 2; Iq(Typ)(uA): 15; Output Driver Type / Reset Output: Active-low, Open-drain; Rating: Catalog; Reset Threshold Accuracy(%): 2.7; SubFamily: Supervisor and Reset IC; Threshold Voltage 1 (typ)(Typ)(V): 2.93; Threshold Voltage 2 (typ)(Typ)(V): 1.4; Time Delay(ms): 100; VCC(Max)(V): 6; Watchdog Timer WDI(sec): 0.8; DatasheetVersion: SLVS290C; PackageVersion: revM, Jun-2011; PackageReference: D8; PackageDescription: 8-Pin Plastic Small Outline Integrated Circuit, 4.9 x 3.9 mm, Pitch 1.27 mm Pitch; Supplier 1: Digi-Key; Supplier Part Number 1: TPS3306-15DG4-ND; Supplier 2: Newark; Supplier Part Number 2: 67K8634; Supplier 3: Mouser; Supplier Part Number 3: 595-TPS3306-15DG4; VCC(Min)(V): 2.7; Mounting Technology: Surface Mount; Code_JEDEC: MS-012AA; ComponentLink1Description: Datasheet; ComponentLink1URL: http://www.ti.com/general/docs/lit/getliterature.tsp?genericPartNumber=TPS3306-15&fileType=pdf
footprint D8_N (SOIC, 8-Leads, Body 4.9x3.9mm, Pitch 1.27mm, IPC Medium Density)
footprint D8_L (SOIC, 8-Leads, Body 4.9x3.9mm, Pitch 1.27mm, IPC High Density)
footprint D8_M (SOIC, 8-Leads, Body 4.9x3.9mm, Pitch 1.27mm, IPC Low Density)
pins: 1 SENSE1 (in) "Sense voltage input 1", 2 SENSE2 (in) "Sense voltage input 2", 3 PFI (in) "Power-fail comparator input", 4 GND (power) "Ground", 5 ~{RESET} (oc) "Active-low reset output, open-drain", 6 ~{PFO} (oc) "Power-fail comparator output, open-drain", 7 WDI (in) "Watchdog timer input", 8 VDD (power) "Supply voltage"

## TPS3306-15DGK
designator U?
Dual-Processor Supervisory Circuit with Power-Fail, 2 Supply Monitored, -40 to 85 degC, 8-pin VSSOP (DGK), Green (RoHS & no Sb/Br); Manufacturer: Texas Instruments; PartNumber: TPS3306-15DGK; # of supplies monitored: 2; Iq(Typ)(uA): 15; Output Driver Type / Reset Output: Active-low, Open-drain; Rating: Catalog; Reset Threshold Accuracy(%): 2.7; SubFamily: Supervisor and Reset IC; Threshold Voltage 1 (typ)(Typ)(V): 2.93; Threshold Voltage 2 (typ)(Typ)(V): 1.4; Time Delay(ms): 100; VCC(Max)(V): 6; Watchdog Timer WDI(sec): 0.8; DatasheetVersion: SLVS290C; PackageVersion: revE, May-2006; PackageReference: DGK8; PackageDescription: 8-Pin Thin Small Outline Package 3 x 3 mm Body ,0.65 mm Pitch; Supplier 1: Digi-Key; Supplier Part Number 1: 296-3303-5-ND; Supplier 2: Newark; Supplier Part Number 2: 77C0305; Supplier 3: Mouser; Supplier Part Number 3: 595-TPS3306-15DGK; VCC(Min)(V): 2.7; Mounting Technology: Surface Mount; Code_JEDEC: MO-187-AA; ComponentLink1Description: Datasheet; ComponentLink1URL: http://www.ti.com/general/docs/lit/getliterature.tsp?genericPartNumber=TPS3306-15&fileType=pdf
footprint DGK8_N (TSOP, 8-Leads, Body 3x3mm, Pitch 0.65mm, IPC Medium Density)
footprint DGK8_L (TSOP, 8-Leads, Body 3x3mm, Pitch 0.65mm, IPC High Density)
footprint DGK8_M (TSOP, 8-Leads, Body 3x3mm, Pitch 0.65mm, IPC Low Density)
pins: 1 SENSE1 (in) "Sense voltage input 1", 2 SENSE2 (in) "Sense voltage input 2", 3 PFI (in) "Power-fail comparator input", 4 GND (power) "Ground", 5 ~{RESET} (oc) "Active-low reset output, open-drain", 6 ~{PFO} (oc) "Power-fail comparator output, open-drain", 7 WDI (in) "Watchdog timer input", 8 VDD (power) "Supply voltage"

## TPS3306-15DGKG4
designator U?
Dual-Processor Supervisory Circuit with Power-Fail, 2 Supply Monitored, -40 to 85 degC, 8-pin VSSOP (DGK), Green (RoHS & no Sb/Br); Manufacturer: Texas Instruments; PartNumber: TPS3306-15DGKG4; # of supplies monitored: 2; Iq(Typ)(uA): 15; Output Driver Type / Reset Output: Active-low, Open-drain; Rating: Catalog; Reset Threshold Accuracy(%): 2.7; SubFamily: Supervisor and Reset IC; Threshold Voltage 1 (typ)(Typ)(V): 2.93; Threshold Voltage 2 (typ)(Typ)(V): 1.4; Time Delay(ms): 100; VCC(Max)(V): 6; Watchdog Timer WDI(sec): 0.8; DatasheetVersion: SLVS290C; PackageVersion: revE, May-2006; PackageReference: DGK8; PackageDescription: 8-Pin Thin Small Outline Package 3 x 3 mm Body ,0.65 mm Pitch; Supplier 1: Digi-Key; Supplier Part Number 1: TPS3306-15DGKG4-ND; Supplier 2: Newark; Supplier Part Number 2: 54K1619; Supplier 3: Mouser; Supplier Part Number 3: 595-TPS3306-15DGKG4; VCC(Min)(V): 2.7; Mounting Technology: Surface Mount; Code_JEDEC: MO-187-AA; ComponentLink1Description: Datasheet; ComponentLink1URL: http://www.ti.com/general/docs/lit/getliterature.tsp?genericPartNumber=TPS3306-15&fileType=pdf
footprint DGK8_N (TSOP, 8-Leads, Body 3x3mm, Pitch 0.65mm, IPC Medium Density)
footprint DGK8_L (TSOP, 8-Leads, Body 3x3mm, Pitch 0.65mm, IPC High Density)
footprint DGK8_M (TSOP, 8-Leads, Body 3x3mm, Pitch 0.65mm, IPC Low Density)
pins: 1 SENSE1 (in) "Sense voltage input 1", 2 SENSE2 (in) "Sense voltage input 2", 3 PFI (in) "Power-fail comparator input", 4 GND (power) "Ground", 5 ~{RESET} (oc) "Active-low reset output, open-drain", 6 ~{PFO} (oc) "Power-fail comparator output, open-drain", 7 WDI (in) "Watchdog timer input", 8 VDD (power) "Supply voltage"

## TPS3306-15DGKR
designator U?
Dual-Processor Supervisory Circuit with Power-Fail, 2 Supply Monitored, -40 to 85 degC, 8-pin VSSOP (DGK), Green (RoHS & no Sb/Br); Manufacturer: Texas Instruments; PartNumber: TPS3306-15DGKR; # of supplies monitored: 2; Iq(Typ)(uA): 15; Output Driver Type / Reset Output: Active-low, Open-drain; Rating: Catalog; Reset Threshold Accuracy(%): 2.7; SubFamily: Supervisor and Reset IC; Threshold Voltage 1 (typ)(Typ)(V): 2.93; Threshold Voltage 2 (typ)(Typ)(V): 1.4; Time Delay(ms): 100; VCC(Max)(V): 6; Watchdog Timer WDI(sec): 0.8; DatasheetVersion: SLVS290C; PackageVersion: revE, May-2006; PackageReference: DGK8; PackageDescription: 8-Pin Thin Small Outline Package 3 x 3 mm Body ,0.65 mm Pitch; Supplier 1: Digi-Key; Supplier Part Number 1: TPS3306-15DGKR-ND; Supplier 2: Newark; Supplier Part Number 2: 77C0306; Supplier 3: Mouser; Supplier Part Number 3: 595-TPS3306-15DGKR; VCC(Min)(V): 2.7; Mounting Technology: Surface Mount; Code_JEDEC: MO-187-AA; ComponentLink1Description: Datasheet; ComponentLink1URL: http://www.ti.com/general/docs/lit/getliterature.tsp?genericPartNumber=TPS3306-15&fileType=pdf
footprint DGK8_N (TSOP, 8-Leads, Body 3x3mm, Pitch 0.65mm, IPC Medium Density)
footprint DGK8_L (TSOP, 8-Leads, Body 3x3mm, Pitch 0.65mm, IPC High Density)
footprint DGK8_M (TSOP, 8-Leads, Body 3x3mm, Pitch 0.65mm, IPC Low Density)
pins: 1 SENSE1 (in) "Sense voltage input 1", 2 SENSE2 (in) "Sense voltage input 2", 3 PFI (in) "Power-fail comparator input", 4 GND (power) "Ground", 5 ~{RESET} (oc) "Active-low reset output, open-drain", 6 ~{PFO} (oc) "Power-fail comparator output, open-drain", 7 WDI (in) "Watchdog timer input", 8 VDD (power) "Supply voltage"

## TPS3306-15DGKRG4
designator U?
Dual-Processor Supervisory Circuit with Power-Fail, 2 Supply Monitored, -40 to 85 degC, 8-pin VSSOP (DGK), Green (RoHS & no Sb/Br); Manufacturer: Texas Instruments; PartNumber: TPS3306-15DGKRG4; # of supplies monitored: 2; Iq(Typ)(uA): 15; Output Driver Type / Reset Output: Active-low, Open-drain; Rating: Catalog; Reset Threshold Accuracy(%): 2.7; SubFamily: Supervisor and Reset IC; Threshold Voltage 1 (typ)(Typ)(V): 2.93; Threshold Voltage 2 (typ)(Typ)(V): 1.4; Time Delay(ms): 100; VCC(Max)(V): 6; Watchdog Timer WDI(sec): 0.8; DatasheetVersion: SLVS290C; PackageVersion: revE, May-2006; PackageReference: DGK8; PackageDescription: 8-Pin Thin Small Outline Package 3 x 3 mm Body ,0.65 mm Pitch; Supplier 1: Digi-Key; Supplier Part Number 1: TPS3306-15DGKRG4-ND; Supplier 2: Newark; Supplier Part Number 2: 24K5915; Supplier 3: Mouser; Supplier Part Number 3: 595-TPS3306-15DGKRG4; VCC(Min)(V): 2.7; Mounting Technology: Surface Mount; Code_JEDEC: MO-187-AA; ComponentLink1Description: Datasheet; ComponentLink1URL: http://www.ti.com/general/docs/lit/getliterature.tsp?genericPartNumber=TPS3306-15&fileType=pdf
footprint DGK8_N (TSOP, 8-Leads, Body 3x3mm, Pitch 0.65mm, IPC Medium Density)
footprint DGK8_L (TSOP, 8-Leads, Body 3x3mm, Pitch 0.65mm, IPC High Density)
footprint DGK8_M (TSOP, 8-Leads, Body 3x3mm, Pitch 0.65mm, IPC Low Density)
pins: 1 SENSE1 (in) "Sense voltage input 1", 2 SENSE2 (in) "Sense voltage input 2", 3 PFI (in) "Power-fail comparator input", 4 GND (power) "Ground", 5 ~{RESET} (oc) "Active-low reset output, open-drain", 6 ~{PFO} (oc) "Power-fail comparator output, open-drain", 7 WDI (in) "Watchdog timer input", 8 VDD (power) "Supply voltage"

## TPS3306-15DR
designator U?
Dual-Processor Supervisory Circuit with Power-Fail, 2 Supply Monitored, -40 to 85 degC, 8-pin SOIC (D), Green (RoHS & no Sb/Br); Manufacturer: Texas Instruments; PartNumber: TPS3306-15DR; # of supplies monitored: 2; Iq(Typ)(uA): 15; Output Driver Type / Reset Output: Active-low, Open-drain; Rating: Catalog; Reset Threshold Accuracy(%): 2.7; SubFamily: Supervisor and Reset IC; Threshold Voltage 1 (typ)(Typ)(V): 2.93; Threshold Voltage 2 (typ)(Typ)(V): 1.4; Time Delay(ms): 100; VCC(Max)(V): 6; Watchdog Timer WDI(sec): 0.8; DatasheetVersion: SLVS290C; PackageVersion: revM, Jun-2011; PackageReference: D8; PackageDescription: 8-Pin Plastic Small Outline Integrated Circuit, 4.9 x 3.9 mm, Pitch 1.27 mm Pitch; Supplier 1: Digi-Key; Supplier Part Number 1: TPS3306-15DR-ND; Supplier 2: Newark; Supplier Part Number 2: 77C0307; Supplier 3: Mouser; Supplier Part Number 3: 595-TPS3306-15DR; VCC(Min)(V): 2.7; Mounting Technology: Surface Mount; Code_JEDEC: MS-012AA; ComponentLink1Description: Datasheet; ComponentLink1URL: http://www.ti.com/general/docs/lit/getliterature.tsp?genericPartNumber=TPS3306-15&fileType=pdf
footprint D8_N (SOIC, 8-Leads, Body 4.9x3.9mm, Pitch 1.27mm, IPC Medium Density)
footprint D8_L (SOIC, 8-Leads, Body 4.9x3.9mm, Pitch 1.27mm, IPC High Density)
footprint D8_M (SOIC, 8-Leads, Body 4.9x3.9mm, Pitch 1.27mm, IPC Low Density)
pins: 1 SENSE1 (in) "Sense voltage input 1", 2 SENSE2 (in) "Sense voltage input 2", 3 PFI (in) "Power-fail comparator input", 4 GND (power) "Ground", 5 ~{RESET} (oc) "Active-low reset output, open-drain", 6 ~{PFO} (oc) "Power-fail comparator output, open-drain", 7 WDI (in) "Watchdog timer input", 8 VDD (power) "Supply voltage"

## TPS3306-15DRG4
designator U?
Dual-Processor Supervisory Circuit with Power-Fail, 2 Supply Monitored, -40 to 85 degC, 8-pin SOIC (D), Green (RoHS & no Sb/Br); Manufacturer: Texas Instruments; PartNumber: TPS3306-15DRG4; # of supplies monitored: 2; Iq(Typ)(uA): 15; Output Driver Type / Reset Output: Active-low, Open-drain; Rating: Catalog; Reset Threshold Accuracy(%): 2.7; SubFamily: Supervisor and Reset IC; Threshold Voltage 1 (typ)(Typ)(V): 2.93; Threshold Voltage 2 (typ)(Typ)(V): 1.4; Time Delay(ms): 100; VCC(Max)(V): 6; Watchdog Timer WDI(sec): 0.8; DatasheetVersion: SLVS290C; PackageVersion: revM, Jun-2011; PackageReference: D8; PackageDescription: 8-Pin Plastic Small Outline Integrated Circuit, 4.9 x 3.9 mm, Pitch 1.27 mm Pitch; Supplier 1: Digi-Key; Supplier Part Number 1: TPS3306-15DRG4-ND; Supplier 2: Newark; Supplier Part Number 2: 58K6914; Supplier 3: Mouser; Supplier Part Number 3: 595-TPS3306-15DRG4; VCC(Min)(V): 2.7; Mounting Technology: Surface Mount; Code_JEDEC: MS-012AA; ComponentLink1Description: Datasheet; ComponentLink1URL: http://www.ti.com/general/docs/lit/getliterature.tsp?genericPartNumber=TPS3306-15&fileType=pdf
footprint D8_N (SOIC, 8-Leads, Body 4.9x3.9mm, Pitch 1.27mm, IPC Medium Density)
footprint D8_L (SOIC, 8-Leads, Body 4.9x3.9mm, Pitch 1.27mm, IPC High Density)
footprint D8_M (SOIC, 8-Leads, Body 4.9x3.9mm, Pitch 1.27mm, IPC Low Density)
pins: 1 SENSE1 (in) "Sense voltage input 1", 2 SENSE2 (in) "Sense voltage input 2", 3 PFI (in) "Power-fail comparator input", 4 GND (power) "Ground", 5 ~{RESET} (oc) "Active-low reset output, open-drain", 6 ~{PFO} (oc) "Power-fail comparator output, open-drain", 7 WDI (in) "Watchdog timer input", 8 VDD (power) "Supply voltage"

## TPS3306-15QDRG4Q1
designator U?
Automotive Catalog Dual Processor Supervisory Circuit with Power-Fail, 2 Supply Monitored, -40 to 125 degC, 8-pin SOIC (D), Green (RoHS & no Sb/Br); Manufacturer: Texas Instruments; PartNumber: TPS3306-15QDRG4Q1; # of supplies monitored: 2; Iq(Typ)(uA): 15; Output Driver Type / Reset Output: Active-low, Open-drain; Reset Threshold Accuracy(%): 2.7; SubFamily: Supervisor and Reset IC; Threshold Voltage 1 (typ)(Typ)(V): 2.93; Threshold Voltage 2 (typ)(Typ)(V): 1.4; Time Delay(ms): 100; VCC(Max)(V): 6; Watchdog Timer WDI(sec): 0.8; DatasheetVersion: SGLS241B; PackageVersion: revM, Jun-2011; PackageReference: D8; PackageDescription: 8-Pin Plastic Small Outline Integrated Circuit, 4.9 x 3.9 mm, Pitch 1.27 mm Pitch; Supplier 1: Digi-Key; Supplier Part Number 1: 296-24774-2-ND; Supplier 2: Digi-Key; Supplier Part Number 2: 296-24774-1-ND; Supplier 3: Digi-Key; Supplier Part Number 3: 296-24774-6-ND; Supplier 4: Mouser; Supplier Part Number 4: 595-TPS330615QDRG4Q1; Rating: Automotive; VCC(Min)(V): 2.7; Mounting Technology: Surface Mount; Code_JEDEC: MS-012AA; ComponentLink1Description: Datasheet; ComponentLink1URL: http://www.ti.com/general/docs/lit/getliterature.tsp?genericPartNumber=TPS3306-15-Q1&fileType=pdf
footprint D8_N (SOIC, 8-Leads, Body 4.9x3.9mm, Pitch 1.27mm, IPC Medium Density)
footprint D8_L (SOIC, 8-Leads, Body 4.9x3.9mm, Pitch 1.27mm, IPC High Density)
footprint D8_M (SOIC, 8-Leads, Body 4.9x3.9mm, Pitch 1.27mm, IPC Low Density)
pins: 1 SENSE1 (in) "Sense voltage 1", 2 SENSE2 (in) "Sense voltage 2", 3 PFI (in) "Power-fail comparator input", 4 GND (power) "Ground", 5 ~{RESET} (oc) "Active-low reset output, open drain", 6 ~{PFO} (oc) "Power-fail comparator output, open drain", 7 WDI (in) "Watchdog timer input", 8 VDD (power) "Supply voltage"

## TPS3306-15QDRQ1
designator U?
Automotive Catalog Dual Processor Supervisory Circuit with Power-Fail, 2 Supply Monitored, -40 to 125 degC, 8-pin SOIC (D), Green (RoHS & no Sb/Br); Manufacturer: Texas Instruments; PartNumber: TPS3306-15QDRQ1; # of supplies monitored: 2; Iq(Typ)(uA): 15; Output Driver Type / Reset Output: Active-low, Open-drain; Reset Threshold Accuracy(%): 2.7; SubFamily: Supervisor and Reset IC; Threshold Voltage 1 (typ)(Typ)(V): 2.93; Threshold Voltage 2 (typ)(Typ)(V): 1.4; Time Delay(ms): 100; VCC(Max)(V): 6; Watchdog Timer WDI(sec): 0.8; DatasheetVersion: SGLS241B; PackageVersion: revM, Jun-2011; PackageReference: D8; PackageDescription: 8-Pin Plastic Small Outline Integrated Circuit, 4.9 x 3.9 mm, Pitch 1.27 mm Pitch; Supplier 1: Digi-Key; Supplier Part Number 1: 296-23065-2-ND; Supplier 2: Digi-Key; Supplier Part Number 2: 296-23065-1-ND; Supplier 3: Digi-Key; Supplier Part Number 3: 296-23065-6-ND; Supplier 4: Newark; Supplier Part Number 4: 10J9754; Supplier 5: Mouser; Supplier Part Number 5: 595-TPS3306-15QDRQ1; Rating: Automotive; VCC(Min)(V): 2.7; Mounting Technology: Surface Mount; Code_JEDEC: MS-012AA; ComponentLink1Description: Datasheet; ComponentLink1URL: http://www.ti.com/general/docs/lit/getliterature.tsp?genericPartNumber=TPS3306-15-Q1&fileType=pdf
footprint D8_N (SOIC, 8-Leads, Body 4.9x3.9mm, Pitch 1.27mm, IPC Medium Density)
footprint D8_L (SOIC, 8-Leads, Body 4.9x3.9mm, Pitch 1.27mm, IPC High Density)
footprint D8_M (SOIC, 8-Leads, Body 4.9x3.9mm, Pitch 1.27mm, IPC Low Density)
pins: 1 SENSE1 (in) "Sense voltage 1", 2 SENSE2 (in) "Sense voltage 2", 3 PFI (in) "Power-fail comparator input", 4 GND (power) "Ground", 5 ~{RESET} (oc) "Active-low reset output, open drain", 6 ~{PFO} (oc) "Power-fail comparator output, open drain", 7 WDI (in) "Watchdog timer input", 8 VDD (power) "Supply voltage"

## TPS3306-18D
designator U?
Dual-Processor Supervisory Circuit with Power-Fail, 2 Supply Monitored, -40 to 85 degC, 8-pin SOIC (D), Green (RoHS & no Sb/Br); Manufacturer: Texas Instruments; PartNumber: TPS3306-18D; # of supplies monitored: 2; Iq(Typ)(uA): 15; Output Driver Type / Reset Output: Active-low, Open-drain; Rating: Catalog; Reset Threshold Accuracy(%): 2.7; SubFamily: Supervisor and Reset IC; Threshold Voltage 1 (typ)(Typ)(V): 2.93; Threshold Voltage 2 (typ)(Typ)(V): 1.68; Time Delay(ms): 100; VCC(Max)(V): 6; Watchdog Timer WDI(sec): 0.8; DatasheetVersion: SLVS290C; PackageVersion: revM, Jun-2011; PackageReference: D8; PackageDescription: 8-Pin Plastic Small Outline Integrated Circuit, 4.9 x 3.9 mm, Pitch 1.27 mm Pitch; Supplier 1: Digi-Key; Supplier Part Number 1: 296-3304-5-ND; Supplier 2: Farnell; Supplier Part Number 2: 1102966; Supplier 3: Newark; Supplier Part Number 3: 62M0684; Supplier 4: Newark; Supplier Part Number 4: 77C0308; Supplier 5: Mouser; Supplier Part Number 5: 595-TPS3306-18D; VCC(Min)(V): 2.7; Mounting Technology: Surface Mount; Code_JEDEC: MS-012AA; ComponentLink1Description: Datasheet; ComponentLink1URL: http://www.ti.com/general/docs/lit/getliterature.tsp?genericPartNumber=TPS3306-18&fileType=pdf
footprint D8_N (SOIC, 8-Leads, Body 4.9x3.9mm, Pitch 1.27mm, IPC Medium Density)
footprint D8_L (SOIC, 8-Leads, Body 4.9x3.9mm, Pitch 1.27mm, IPC High Density)
footprint D8_M (SOIC, 8-Leads, Body 4.9x3.9mm, Pitch 1.27mm, IPC Low Density)
pins: 1 SENSE1 (in) "Sense voltage input 1", 2 SENSE2 (in) "Sense voltage input 2", 3 PFI (in) "Power-fail comparator input", 4 GND (power) "Ground", 5 ~{RESET} (oc) "Active-low reset output, open-drain", 6 ~{PFO} (oc) "Power-fail comparator output, open-drain", 7 WDI (in) "Watchdog timer input", 8 VDD (power) "Supply voltage"